# Altium schematic symbol library 2560TK_SchematicLib.SchLib: 34 symbols (part 1 of 2)
Pins are listed as number, name and electrical type; pins without a type are passive.

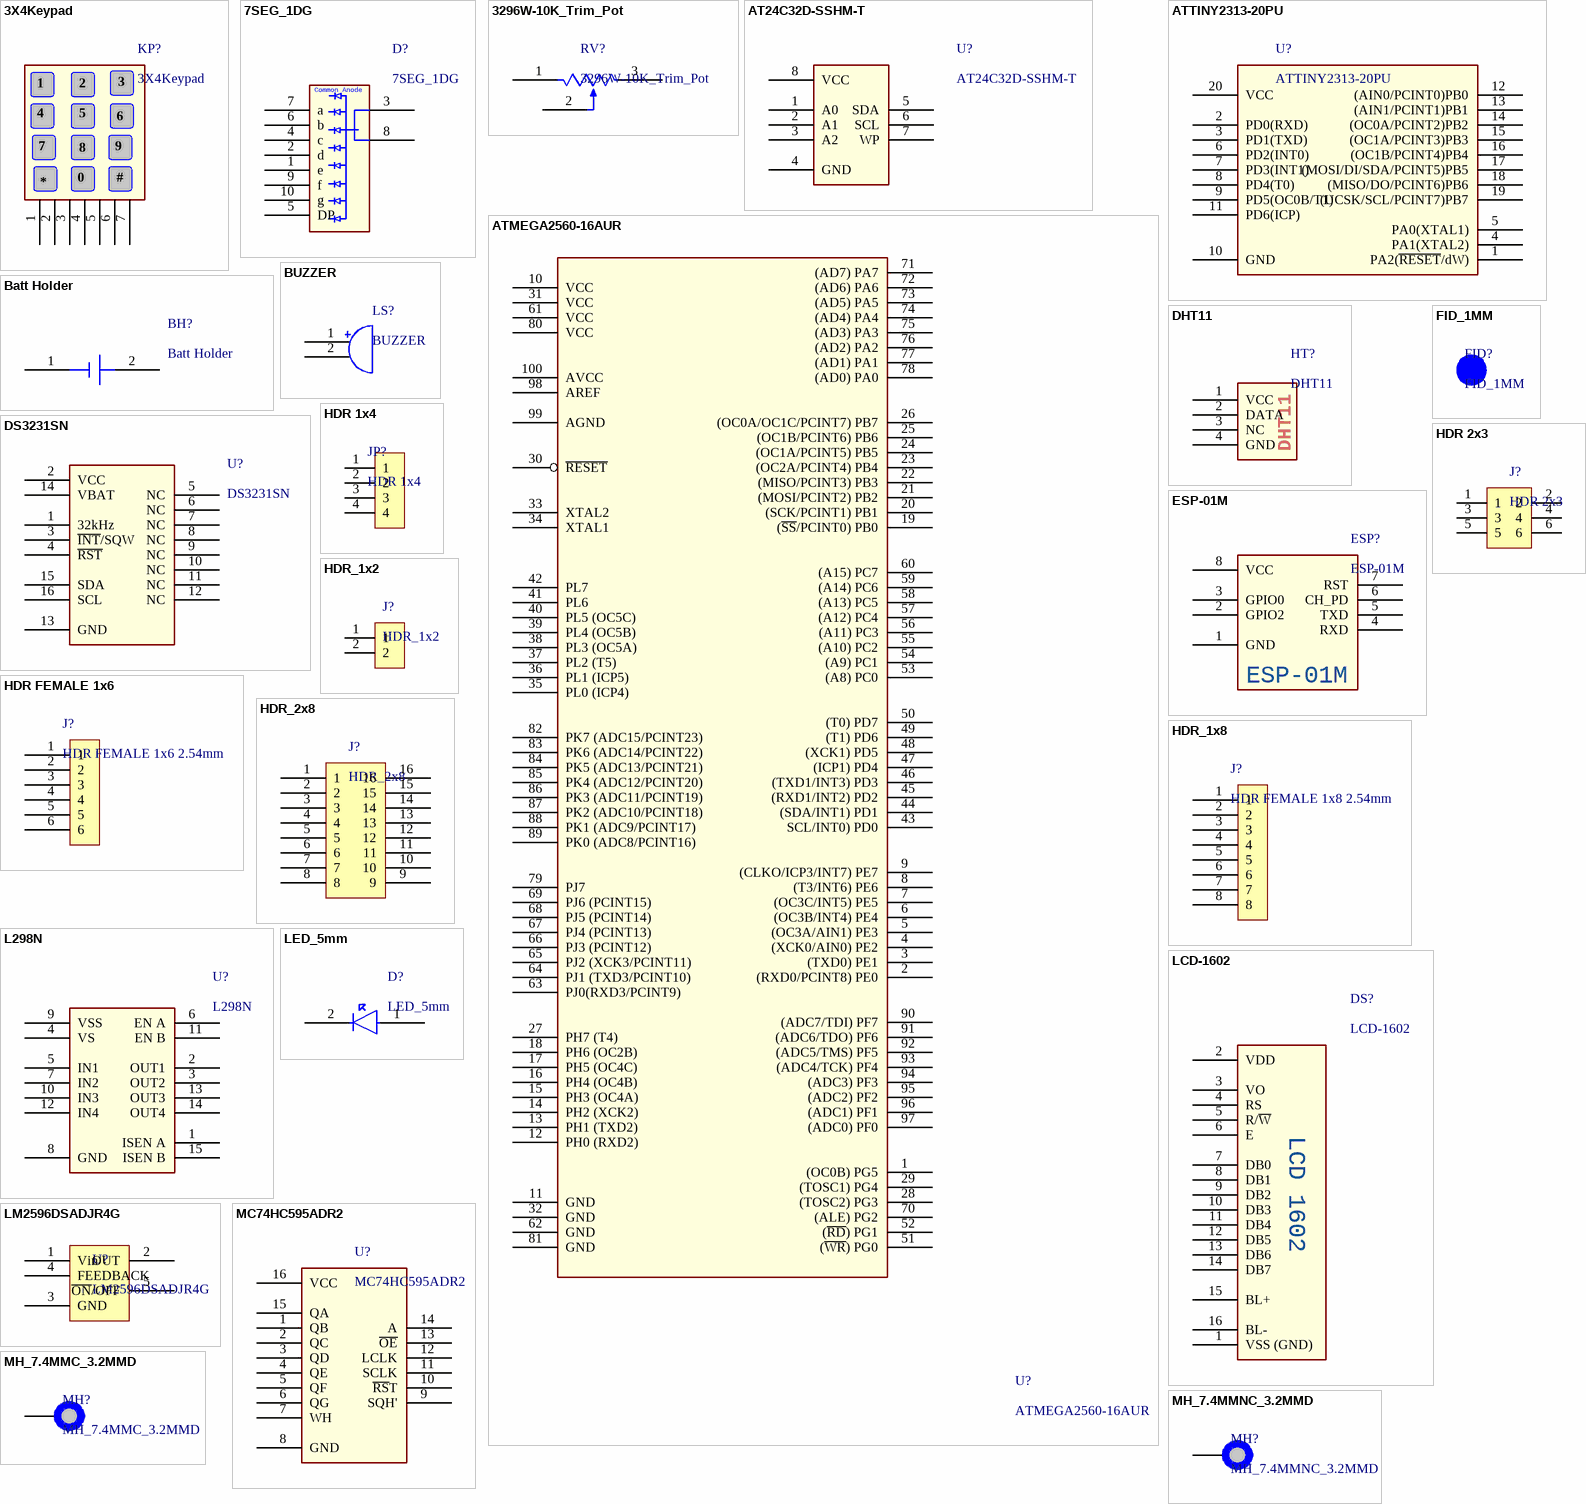
[diagram p0: symbols 3X4Keypad to MH_7.4MMNC_3.2MMD]

## 3X4Keypad
designator KP?
3x4 Matrix Keypad; Manufacturer: Adafruit Industries; Manufacturer Part Number: 3845; Stock 1: 43; Pricing 1: 1=6.50000 (USD); Supplier 1: Digi-Key; Supplier Part Number 1: 1528-2673-ND
footprint COM-08653
pins: 1, 2, 3, 4, 5, 6, 7
text: 8; 9; 0; #

## 7SEG_1DG
designator D?
LED Displays & Accessories Single Red 640nm Common Anode; Manufacturer: Kingbright; Manufacturer Part Number: SA05-11SRWA; Character Height: 12.7mm; Character Width: 7.3mm; Max Power Dissipation: 75mW; Forward Current: 20mA; Forward Voltage: 1.85V; Number of Characters: 1; Luminous Intensity: 34mcd; Number of Segments: 7; Display Type: Segment; RoHS: Yes; Category: LED Displays; Stock 1: 1638; Pricing 1: 1=1.96000, 10=1.24000, 100=0.91770, 500=0.84334, 1000=0.69451, 2000=0.65979, 5000=0.64490, 10000=0.63180 (USD); Mount: Through Hole; Case/Package: DIP; Number of Pins: 10; Color: Red; Min Operating Temperature: -40°C; Max Operating Temperature: 85°C; Package Quantity: 40; Element Configuration: Common Anode; Illumination Color: Red; Operating Supply Voltage: 1.85V; Wavelength: 640nm; Packaging: Bulk; Power Consumption: 75mW; Test Current: 20mA; Length: 0.75inch; Width: 0.5inch; Height: 0.748inch; Lead Free: Lead Free; RoHS Compliant: Yes; ComponentLink1URL: https://datasheet.ciiva.com/16484/sa05-11srwa-16484660.pdf?src-supplier=Future+Electronics; ComponentLink1Description: https://datasheet.ciiva.com/16484/sa05-11srwa-16484660.pdf?src-supplier=Future+Electronics; ComponentLink2URL: https://datasheet.ciiva.com/11771/0900766b802001c1-11771105.pdf?src-supplier=RSComponents; ComponentLink2Description: https://datasheet.ciiva.com/11771/0900766b802001c1-11771105.pdf?src-supplier=RSComponents; ComponentLink3URL: https://datasheet.ciiva.com/2104/sa05-11srwa-2104885.pdf?src-supplier=Digi-Key; ComponentLink3Description: https://datasheet.ciiva.com/2104/sa05-11srwa-2104885.pdf?src-supplier=Digi-Key; ComponentLink4URL: https://datasheet.ciiva.com/4421/sa05-11srwa-42646-4421784.pdf?src-supplier=Mouser; ComponentLink4Description: https://datasheet.ciiva.com/4421/sa05-11srwa-42646-4421784.pdf?src-supplier=Mouser; ComponentLink5URL: https://datasheet.ciiva.com/26291/sa05-11srwa-26291690.pdf?src-supplier=Digi-Key; ComponentLink5Description: https://datasheet.ciiva.com/26291/sa05-11srwa-26291690.pdf?src-supplier=Digi-Key; Supplier 1: Digi-Key; Supplier Part Number 1: 754-1677-5-ND
footprint 7SEG_1DG
pins: 1 e, 2 d, 3, 4 c, 5 DP, 6 b, 7 a, 8, 9 f, 10 g

## 3296W-10K_Trim_Pot
designator RV?
TRIMMER 10K OHM 0.5W PC PIN TOP; Manufacturer: Bourns; Manufacturer Part Number: 3296W-1-103; Tolerance: 10%; Power Rating: 500mW; Resistance: 10kR; Number of Turns: 25; Temperature Coefficient: 100ppm/°C; Voltage Rating (DC): 500V; RoHS: No; Category: Variable Resistors and Potentiometers; Stock 1: 58; Pricing 1: 1=4.38000, 10=3.83600, 25=3.42520, 50=3.21960, 100=3.15100, 250=3.01400, 500=2.46600, 1000=2.12350, 5000=1.91800 (USD); Mount: PCB,Through Hole; Weight: 0.03oz; Color: Blue; Contact Plating: Tin,Lead; Min Operating Temperature: -55°C; Max Operating Temperature: 125°C; Package Quantity: 50; Packaging: Rail/Tube; Termination: Pin; Resistor Type: Cermet; Max Power Dissipation: 500mW; Taper: Linear; Series: Trimpot® 3296 - Sealed; Technology: CERMET; Resistance Tolerance: 10%; Length: 9.53mm; Width: 9.53mm; Height: 0.395inch; Depth: 4.83mm; Thickness: 5.59mm; Radiation Hardening: No; REACH SVHC: No SVHC; Military Standard: Not; RoHS Compliant: No; ComponentLink1URL: https://datasheet.ciiva.com/3266/3296-3266186.pdf?src-supplier=Avnet; ComponentLink1Description: https://datasheet.ciiva.com/3266/3296-3266186.pdf?src-supplier=Avnet; ComponentLink2URL: https://datasheet.ciiva.com/2164/3296-2164077.pdf?src-supplier=Digi-Key; ComponentLink2Description: https://datasheet.ciiva.com/2164/3296-2164077.pdf?src-supplier=Digi-Key; ComponentLink3URL: https://datasheet.ciiva.com/1570/1815117-1570414.pdf?src-supplier=Newark; ComponentLink3Description: https://datasheet.ciiva.com/1570/1815117-1570414.pdf?src-supplier=Newark; Supplier Part Number 1: 3296W-103-ND
footprint 3296W_TrimPot
pins: 1, 2, 3

## AT24C32D-SSHM-T
designator U?
EEPROM Serial-2Wire 32K-bit 4K x 8 1.8V/2.5V/3.3V/5V 8-Pin SOIC T/R; Manufacturer: Microchip / Atmel; Min Supply Voltage: 1.7V; Max Supply Voltage: 5.5V; Access Time: 550ns; Density: 32Kb; Frequency: 1MHz; Nominal Supply Current: 3mA; Interface: I2C,Serial,2-Wire; Operating Supply Voltage: 5V; Organization: 4KX8; Write Protection: YES; Write Cycle Time-Max (tWC): 5ms; Manufacturer Part Number: AT24C32D-SSHM-T; RoHS: Yes; Category: EEPROM; Pricing 1: 1=0.44000 (USD); Mount: Surface Mount; Case/Package: SOIC; Number of Pins: 8; Min Operating Temperature: -40°C; Max Operating Temperature: 85°C; Packaging: Tape and Reel; Package Quantity: 1; Memory Type: EEPROM; Memory Size: 32Kb; Max Frequency: 1MHz; Voltage: 5V; Series: -; Access Time-Max: 550ns; Supply Current: 3mA; Supply Voltage-Nom: 5.5V; Radiation Hardening: No; REACH SVHC: No SVHC; Lead Free: Lead Free; RoHS Compliant: Yes; ComponentLink1URL: https://datasheet.ciiva.com/15123/getdatasheetpartid-320868-15123383.pdf?src-supplier=Verical; ComponentLink1Description: https://datasheet.ciiva.com/15123/getdatasheetpartid-320868-15123383.pdf?src-supplier=Verical; ComponentLink2URL: https://datasheet.ciiva.com/5700/1744693-5700966.pdf?src-supplier=Farnell; ComponentLink2Description: https://datasheet.ciiva.com/5700/1744693-5700966.pdf?src-supplier=Farnell; ComponentLink3URL: https://datasheet.ciiva.com/26869/at24c32d-sshm-t-26869756.pdf?src-supplier=IIIC; ComponentLink3Description: https://datasheet.ciiva.com/26869/at24c32d-sshm-t-26869756.pdf?src-supplier=IIIC; ComponentLink4URL: https://datasheet.ciiva.com/6615/atmel-8866-seeprom-at24c32d-datasheet-6615162.pdf?src-supplier=Digi-Key; ComponentLink4Description: https://datasheet.ciiva.com/6615/atmel-8866-seeprom-at24c32d-datasheet-6615162.pdf?src-supplier=Digi-Key; ComponentLink5URL: https://datasheet.ciiva.com/24168/atmel-8850-seeprom-at24c64d-datasheet-24168478.pdf?src-supplier=Future+Electronics; ComponentLink5Description: https://datasheet.ciiva.com/24168/atmel-8850-seeprom-at24c64d-datasheet-24168478.pdf?src-supplier=Future+Electronics; ComponentLink6URL: https://datasheet.ciiva.com/18617/atmel-8866-seeprom-at24c32d-datasheet-18617722.pdf?src-supplier=Digi-Key; ComponentLink6Description: https://datasheet.ciiva.com/18617/atmel-8866-seeprom-at24c32d-datasheet-18617722.pdf?src-supplier=Digi-Key; ComponentLink7URL: https://datasheet.ciiva.com/6615/atmel-8866-seeprom-at24c32d-datasheet-6615163.pdf?src-supplier=Digi-Key; ComponentLink7Description: https://datasheet.ciiva.com/6615/atmel-8866-seeprom-at24c32d-datasheet-6615163.pdf?src-supplier=Digi-Key; ComponentLink8URL: https://datasheet.ciiva.com/22729/1744693-22729500.pdf?src-supplier=Element14; ComponentLink8Description: https://datasheet.ciiva.com/22729/1744693-22729500.pdf?src-supplier=Element14; ComponentLink9URL: https://datasheet.ciiva.com/22618/1744693-22618573.pdf?src-supplier=Element14; ComponentLink9Description: https://datasheet.ciiva.com/22618/1744693-22618573.pdf?src-supplier=Element14; Supplier Part Number 1: AT24C32D-SSHM-TCT-ND
footprint 8-Pin TTSOP
pins: 1 A0, 2 A1, 3 A2, 4 GND, 5 SDA, 6 SCL, 7 WP, 8 VCC

## ATMEGA2560-16AUR
designator U?
ATMEGA2560 IC MCU 8BIT 256KB FLASH 100TQFP; Manufacturer: Microchip / Atmel; RAM Size: 8KB; Interface: I2C,SPI,UART,USART,EBI/EMI; Number of I/Os: 86; Number of Timers/Counters: 6; Frequency: 16MHz; Operating Supply Voltage: 5V; Max Supply Voltage: 5.5V; Min Supply Voltage: 4.5V; Oscillator Type: Internal; Data Bus Width: 8b; Watchdog Timer: Yes; Peripherals: Brown-out Detect/Reset,POR,PWM,WDT; Core Architecture: AVR; Supplier 1: Digi-Key; Manufacturer Part Number: ATMEGA2560-16AUR; RoHS: Yes; Category: Microcontrollers; Stock 1: 900; Pricing 1: 1=11.99000, 25=10.99000, 100=9.95010 (USD); Mount: Surface Mount; Case/Package: A; Number of Pins: 100; Contact Plating: Tin,Matte; Min Operating Temperature: -40°C; Max Operating Temperature: 85°C; Package Quantity: 1500; Packaging: Tape and Reel; Number of Programmable I/O: 86; Max Frequency: 16MHz; Memory Type: FLASH; Memory Size: 256KB; REACH SVHC: No SVHC; Lead Free: Lead Free; ComponentLink1URL: https://datasheet.ciiva.com/6641/atmel-2549-8-bit-avr-microcontroller-atmega640-1280-1281-2560-2561-summary-6641242.pdf?src-supplier=Digi-Key; ComponentLink1Description: https://datasheet.ciiva.com/6641/atmel-2549-8-bit-avr-microcontroller-atmega640-1280-1281-2560-2561-summary-6641242.pdf?src-supplier=Digi-Key; ComponentLink2URL: https://datasheet.ciiva.com/6641/atmel-2549-8-bit-avr-microcontroller-atmega640-1280-1281-2560-2561-summary-6641243.pdf?src-supplier=Digi-Key; ComponentLink2Description: https://datasheet.ciiva.com/6641/atmel-2549-8-bit-avr-microcontroller-atmega640-1280-1281-2560-2561-summary-6641243.pdf?src-supplier=Digi-Key; ComponentLink3URL: https://datasheet.ciiva.com/6641/atmel-2549-8-bit-avr-microcontroller-atmega640-1280-1281-2560-2561-summary-6641244.pdf?src-supplier=Digi-Key; ComponentLink3Description: https://datasheet.ciiva.com/6641/atmel-2549-8-bit-avr-microcontroller-atmega640-1280-1281-2560-2561-summary-6641244.pdf?src-supplier=Digi-Key; Supplier Part Number 1: ATMEGA2560-16AURCT-ND
footprint 100pinTQFP
pins: 1 (OC0B) PG5, 2 (RXD0/PCINT8) PE0, 3 (TXD0) PE1, 4 (XCK0/AIN0) PE2, 5 (OC3A/AIN1) PE3, 6 (OC3B/INT4) PE4, 7 (OC3C/INT5) PE5, 8 (T3/INT6) PE6, 9 (CLKO/ICP3/INT7) PE7, 10 VCC, 11 GND, 12 PH0 (RXD2), 13 PH1 (TXD2), 14 PH2 (XCK2), 15 PH3 (OC4A), 16 PH4 (OC4B), 17 PH5 (OC4C), 18 PH6 (OC2B), 19 (~{SS}/PCINT0) PB0, 20 (SCK/PCINT1) PB1, 21 (MOSI/PCINT2) PB2, 22 (MISO/PCINT3) PB3, 23 (OC2A/PCINT4) PB4, 24 (OC1A/PCINT5) PB5, 25 (OC1B/PCINT6) PB6, 26 (OC0A/OC1C/PCINT7) PB7, 27 PH7 (T4), 28 (TOSC2) PG3, 29 (TOSC1) PG4, 30 ~{RESET}, 31 VCC, 32 GND, 33 XTAL2, 34 XTAL1, 35 PL0 (ICP4), 36 PL1 (ICP5), 37 PL2 (T5), 38 PL3 (OC5A), 39 PL4 (OC5B), 40 PL5 (OC5C), 41 PL6, 42 PL7, 43 SCL/INT0) PD0, 44 (SDA/INT1) PD1, 45 (RXD1/INT2) PD2, 46 (TXD1/INT3) PD3, 47 (ICP1) PD4, 48 (XCK1) PD5, 49 (T1) PD6, 50 (T0) PD7, 51 (~{WR}) PG0, 52 (~{RD}) PG1, 53 (A8) PC0, 54 (A9) PC1, 55 (A10) PC2, 56 (A11) PC3, 57 (A12) PC4, 58 (A13) PC5, 59 (A14) PC6, 60 (A15) PC7, 61 VCC, 62 GND, 63 PJ0(RXD3/PCINT9), 64 PJ1 (TXD3/PCINT10), 65 PJ2 (XCK3/PCINT11), 66 PJ3 (PCINT12), 67 PJ4 (PCINT13), 68 PJ5 (PCINT14), 69 PJ6 (PCINT15), 70 (ALE) PG2, 71 (AD7) PA7, 72 (AD6) PA6, 73 (AD5) PA5, 74 (AD4) PA4, 75 (AD3) PA3, 76 (AD2) PA2, 77 (AD1) PA1, 78 (AD0) PA0, 79 PJ7, 80 VCC, 81 GND, 82 PK7 (ADC15/PCINT23), 83 PK6 (ADC14/PCINT22), 84 PK5 (ADC13/PCINT21), 85 PK4 (ADC12/PCINT20), 86 PK3 (ADC11/PCINT19), 87 PK2 (ADC10/PCINT18), 88 PK1 (ADC9/PCINT17), 89 PK0 (ADC8/PCINT16), 90 (ADC7/TDI) PF7, 91 (ADC6/TDO) PF6, 92 (ADC5/TMS) PF5, 93 (ADC4/TCK) PF4, 94 (ADC3) PF3, 95 (ADC2) PF2, 96 (ADC1) PF1, 97 (ADC0) PF0, 98 AREF, 99 AGND, 100 AVCC

## ATTINY2313-20PU
designator U?
ATMEL         ATTINY2313-20PU            8 Bit Microcontroller, Low Power High Performance, ATtiny, 20 MHz, 2 KB, 128 Byte, 20 Pins, DIP; Manufacturer: Microchip / Atmel; Interface: SPI,UART,USART; Min Supply Voltage: 2.7V; Max Supply Voltage: 5.5V; Frequency: 20MHz; Oscillator Type: Internal; Memory Type: FLASH,EEPROM; Memory Size: 2KB; Peripherals: Brown-out Detect/Reset,POR,PWM,WDT; Number of Timers/Counters: 2; RAM Size: 128B; Number of I/Os: 18; Number of PWM Channels: 4; Number of UART Channels: 1; Data Bus Width: 8b; Number of Bits: 8; Watchdog Timer: Yes; Access Time: 20us; Core Architecture: AVR; Manufacturer Part Number: ATTINY2313-20PU; RoHS: Yes; Category: Microcontrollers; Stock 1: 1963; Pricing 1: 1=1.93000, 25=1.77120, 100=1.59500 (USD); Mount: Through Hole; Case/Package: DIP; Number of Pins: 20; Contact Plating: Tin,Matte; Min Operating Temperature: -40°C; Max Operating Temperature: 85°C; Packaging: Rail/Tube; Package Quantity: 18; Density: 2KB; Number of Programmable I/O: 18; Max Frequency: 20MHz; Number of SPI Channels: 2; Number of I2C Channels: 1; Address Bus Width: 8b; Series: AVR® ATtiny; Length: 25.98mm; Width: 7.112mm; Height: 4.953mm; Radiation Hardening: No; RoHS Compliant: Yes; REACH SVHC: No SVHC; Lead Free: Lead Free; ComponentLink1URL: https://datasheet.ciiva.com/1167/doc2543-1167040.pdf?src-supplier=Newark; ComponentLink1Description: https://datasheet.ciiva.com/1167/doc2543-1167040.pdf?src-supplier=Newark; ComponentLink2URL: https://datasheet.ciiva.com/19481/1537061-19481586.pdf?src-supplier=Jameco; ComponentLink2Description: https://datasheet.ciiva.com/19481/1537061-19481586.pdf?src-supplier=Jameco; ComponentLink3URL: https://datasheet.ciiva.com/15122/getdatasheetpartid-143079-15122628.pdf?src-supplier=Verical; ComponentLink3Description: https://datasheet.ciiva.com/15122/getdatasheetpartid-143079-15122628.pdf?src-supplier=Verical; ComponentLink4URL: https://datasheet.ciiva.com/20168/73-4316-20168308.pdf?src-supplier=Rapid+Electronics; ComponentLink4Description: https://datasheet.ciiva.com/20168/73-4316-20168308.pdf?src-supplier=Rapid+Electronics; ComponentLink5URL: https://datasheet.ciiva.com/14132/gn645062-14132485.pdf?src-supplier=Distrelec; ComponentLink5Description: https://datasheet.ciiva.com/14132/gn645062-14132485.pdf?src-supplier=Distrelec; ComponentLink6URL: https://datasheet.ciiva.com/1158/1131078-1158423.pdf?src-supplier=Element14; ComponentLink6Description: https://datasheet.ciiva.com/1158/1131078-1158423.pdf?src-supplier=Element14; ComponentLink7URL: https://datasheet.ciiva.com/26207/doc2543-26207001.pdf?src-supplier=Avnet+Europe; ComponentLink7Description: https://datasheet.ciiva.com/26207/doc2543-26207001.pdf?src-supplier=Avnet+Europe; ComponentLink8URL: https://datasheet.ciiva.com/6639/doc2543-6639931.pdf?src-supplier=Digi-Key; ComponentLink8Description: https://datasheet.ciiva.com/6639/doc2543-6639931.pdf?src-supplier=Digi-Key; ComponentLink9URL: https://datasheet.ciiva.com/3203/doc2543-3203135.pdf?src-supplier=Avnet; ComponentLink9Description: https://datasheet.ciiva.com/3203/doc2543-3203135.pdf?src-supplier=Avnet; Supplier 1: Digi-Key; Supplier Part Number 1: ATTINY2313-20PU-ND
footprint DIP20
pins: 1 PA2(~{RESET}/dW), 2 PD0(RXD), 3 PD1(TXD), 4 PA1(XTAL2), 5 PA0(XTAL1), 6 PD2(INT0), 7 PD3(INT1), 8 PD4(T0), 9 PD5(OC0B/T1), 10 GND, 11 PD6(ICP), 12 (AIN0/PCINT0)PB0, 13 (AIN1/PCINT1)PB1, 14 (OC0A/PCINT2)PB2, 15 (OC1A/PCINT3)PB3, 16 (OC1B/PCINT4)PB4, 17 (MOSI/DI/SDA/PCINT5)PB5, 18 (MISO/DO/PCINT6)PB6, 19 (UCSK/SCL/PCINT7)PB7, 20 VCC

## Batt Holder
designator BH?
BATTERY HOLDER COIN 20MM PC PIN; Manufacturer: Memory Protection Devices; Manufacturer Part Number: BS-7; Number of Cells: 1; Supplier 1: Digi-Key; RoHS: No; Category: Batteries and Accessories; Stock 1: 55851; Pricing 1: 1=0.78000, 10=0.66000, 50=0.57880, 100=0.54570, 250=0.50236, 500=0.47176, 1000=0.44115, 2500=0.40290, 5000=0.37230 (USD); Mount: Through Hole,PCB; Min Operating Temperature: -55°C; Max Operating Temperature: 105°C; Package Quantity: 100; Termination: PC Pin; Diameter: 20mm; Lead Free: Lead Free; ComponentLink1URL: https://datasheet.ciiva.com/3/bs-7-datasheet-3824.pdf?src-supplier=Digi-Key; ComponentLink1Description: https://datasheet.ciiva.com/3/bs-7-datasheet-3824.pdf?src-supplier=Digi-Key; Supplier Part Number 1: BS-7-ND
footprint Batt Holder
pins: 1, 2

## BUZZER
designator LS?
AUDIO MAGNETIC XDCR 3-7V TH; Manufacturer: Projects Unlimited; Manufacturer Part Number: AT-1224-TWT-5V-2-R; Voltage Rating: 5V; Frequency: 2.4kHz; Operating Supply Current: 40mA; RoHS: Yes; Category: Audio Products; Stock 1: 83564; Pricing 1: 1=0.61000, 5=0.54600, 10=0.52000, 25=0.48640, 50=0.46120, 100=0.43680, 500=0.38252, 1000=0.36032, 5000=0.31168 (USD); Mount: Through Hole; Contact Plating: Tin; Min Operating Temperature: -30°C; Max Operating Temperature: 70°C; Packaging: Tray; Termination: PC Pins; Sensing Method: Magnetic; Max Supply Current: 40mA; Diameter: 12mm; Height: 9mm; ComponentLink1URL: http://www.mouser.com/ds/2/334/AT-1224-TWT-5V-2-R-532234.pdf?src-supplier=Mouser; ComponentLink1Description: http://www.mouser.com/ds/2/334/AT-1224-TWT-5V-2-R-532234.pdf?src-supplier=Mouser; ComponentLink2URL: http://www.puiaudio.com/pdf/AT-1224-TWT-5V-2-R.pdf?src-supplier=Digi-Key; ComponentLink2Description: http://www.puiaudio.com/pdf/AT-1224-TWT-5V-2-R.pdf?src-supplier=Digi-Key; ComponentLink3URL: http://www.puiaudio.com/pdf/AT-1224-TWT-5V-2-R.pdf?src-supplier=Avnet; ComponentLink3Description: http://www.puiaudio.com/pdf/AT-1224-TWT-5V-2-R.pdf?src-supplier=Avnet; Supplier 1: Digi-Key; Supplier Part Number 1: 668-1470-ND
footprint BUZZER
pins: 1, 2

## DHT11
designator HT?
SENSOR HUMID/TEMP 5V DTL 5% MOD; Manufacturer: Adafruit Industries; Manufacturer Part Number: 386; Response Time: 1s; Sensor Type: Temperature; Output Type: Digital; RoHS: Yes; Category: Optoelectronics; Stock 1: 753; Pricing 1: 1=5.00000 (USD); Mount: Chassis Mount; Min Operating Temperature: 0°C; Max Operating Temperature: 50°C; Accuracy: 5%; ComponentLink1URL: https://media.digikey.com/pdf/Data%20Sheets/Adafruit%20PDFs/DHT11_ProdManual.pdf?src-supplier=Digi-Key; ComponentLink1Description: https://media.digikey.com/pdf/Data%20Sheets/Adafruit%20PDFs/DHT11_ProdManual.pdf?src-supplier=Digi-Key; Supplier 1: Digi-Key; Supplier Part Number 1: 1528-1228-ND
footprint DHT11
pins: 1 VCC, 2 DATA, 3 NC, 4 GND

## DS3231SN
designator U?
MAXIM INTEGRATED PRODUCTS - DS3231SN#T&R - IC, RTC, Datum-/Zeitformat (Tag/Datum/Monat/Jahr, hh:mm:ss), I2C, 2.3V-5.5V Versorgung, SOIC-16; Max Supply Voltage: 5.5V; Min Supply Voltage: 2.3V; Interface: I2C,Serial,2-Wire; Logic Function: Clock; Date Format: YY-MM-DD-dd; Operating Supply Voltage: 3.3V; Supplier 1: Digi-Key; Manufacturer: Maxim; Manufacturer Part Number: DS3231SN#T&R; RoHS: Yes; Category: Real Time Clocks; Stock 1: 4168; Pricing 1: 1=8.82000, 10=7.96700, 25=7.59600, 100=6.59560, 250=6.29920, 500=5.74336 (USD); Mount: Surface Mount; Case/Package: SOIC; Number of Pins: 16; Contact Plating: Tin,Matte; Min Operating Temperature: -40°C; Max Operating Temperature: 85°C; Packaging: Tape and Reel; Package Quantity: 1000; Time Format: HH:MM:SS; Series: -; Radiation Hardening: No; Lead Free: Lead Free; RoHS Compliant: Yes; ComponentLink1URL: https://datasheet.ciiva.com/17307/ds3231-17307128.pdf?src-supplier=Avnet+Europe; ComponentLink1Description: https://datasheet.ciiva.com/17307/ds3231-17307128.pdf?src-supplier=Avnet+Europe; ComponentLink2URL: https://datasheet.ciiva.com/12291/ds3231-102175-12291260.pdf?src-supplier=Mouser; ComponentLink2Description: https://datasheet.ciiva.com/12291/ds3231-102175-12291260.pdf?src-supplier=Mouser; ComponentLink3URL: https://datasheet.ciiva.com/14244/ds3231-14244637.pdf?src-supplier=Avnet; ComponentLink3Description: https://datasheet.ciiva.com/14244/ds3231-14244637.pdf?src-supplier=Avnet; ComponentLink4URL: https://datasheet.ciiva.com/14244/ds3231-14244733.pdf?src-supplier=Avnet; ComponentLink4Description: https://datasheet.ciiva.com/14244/ds3231-14244733.pdf?src-supplier=Avnet; Supplier Part Number 1: DS3231SN#T&RCT-ND
footprint 16 SO
pins: 1 32kHz, 2 VCC, 3 ~{INT}/SQW, 4 ~{RST}, 5 NC, 6 NC, 7 NC, 8 NC, 9 NC, 10 NC, 11 NC, 12 NC, 13 GND, 14 VBAT, 15 SDA, 16 SCL

## ESP-01M
designator ESP?
TXRX ESP8266 MOD WIFI TRACE ANT; Manufacturer: Seeed Studio; Manufacturer Part Number: 317060016; RoHS: No; Category: Embedded Processors and Controllers; Stock 1: 190; Pricing 1: 1=7.09000 (USD); Case/Package: Module; Weight: 0.0625lb; Length: 3.25inch; Width: 2.25inch; Height: 0.25inch; ComponentLink1URL: https://media.digikey.com/pdf/Data%20Sheets/Seeed%20Technology/317060016_Web.pdf?src-supplier=Digi-Key; ComponentLink1Description: https://media.digikey.com/pdf/Data%20Sheets/Seeed%20Technology/317060016_Web.pdf?src-supplier=Digi-Key; Supplier 1: Digi-Key; Supplier Part Number 1: 1597-1145-ND
footprint ESP-01
pins: 1 GND, 2 GPIO2, 3 GPIO0, 4 RXD, 5 TXD, 6 CH_PD, 7 RST, 8 VCC

## FID_1MM
designator FID?
Fiducial 40mil Diameter, 120mil mask
footprint FID_40x120

## HDR 1x4
designator JP?
CONN HEADER VERT 4POS 2.54MM; Manufacturer: Amphenol FCI; Manufacturer Part Number: 68001-204HLF; Current Rating: 3A; Voltage Rating: 1.5kV; Connector Type: Male Pin; Gender: Male; Number of Positions: 4; Insulation Resistance: 5GR; Contact Post Length: 3.05mm; Supplier 1: Digi-Key; RoHS: Yes; Category: Headers and Wire Housings; Stock 1: 2003; Pricing 1: 1=0.40000, 10=0.37500, 100=0.26260, 500=0.22512, 1000=0.18760, 5000=0.16080, 10000=0.15008 (USD); Mount: Through Hole; Color: Black; Contact Plating: Gold,GXT; Contact Material: Bronze; Housing Material: Thermoplastic; Min Operating Temperature: -65°C; Max Operating Temperature: 125°C; Package Quantity: 100; Number of Rows: 1; Packaging: Bulk; Contact Gender: Male; Termination: Solder; Number of Contacts: 4; Orientation: Straight; Pitch: 2.54mm; Contact Mating Length: 0.23inch; Radiation Hardening: No; Flammability Rating: UL94 V-0; ComponentLink1URL: https://datasheet.ciiva.com/5164/68000-274255-5164127.pdf?src-supplier=Mouser; ComponentLink1Description: https://datasheet.ciiva.com/5164/68000-274255-5164127.pdf?src-supplier=Mouser; ComponentLink2URL: https://datasheet.ciiva.com/726/68000-726529.pdf?src-supplier=Digi-Key; ComponentLink2Description: https://datasheet.ciiva.com/726/68000-726529.pdf?src-supplier=Digi-Key; Supplier Part Number 1: 609-3402-ND
footprint HDR_1x4_2.54mm
pins: 1, 2, 3, 4

## HDR 2x3
designator J?
CONN HEADER 6POS .100 STR 30AU; Manufacturer: Amphenol FCI; Manufacturer Part Number: 67997-106HLF; Number of Contacts: 6; Current Rating: 3A; Voltage Rating: 1.5kV; Insulation Resistance: 5GR; Gender: Male; Connector Type: Male Pin; Pitch: 2.54mm; Row Spacing: 0.1inch; Contact Post Length: 3.05mm; Supplier 1: Digi-Key; RoHS: Yes; Category: Headers and Wire Housings; Stock 1: 1173; Pricing 1: 1=1.87000, 10=1.69500, 100=1.45300, 500=1.21082, 1000=1.03785, 5000=0.92023, 10000=0.89947 (USD); Mount: Through Hole; Contact Plating: Gold,GXT; Contact Material: Bronze; Color: Black; Housing Color: Black; Housing Material: Thermoplastic; Min Operating Temperature: -65°C; Max Operating Temperature: 125°C; Number of Rows: 2; Termination: Through Hole; Packaging: Bulk; Package Quantity: 100; Contact Gender: Male; Number of Positions: 6; Max Voltage Rating (AC): 1.5kV; Orientation: Straight; Series: 67997; Contact Type: Male Pin; Length: 7.62mm; Contact Mating Length: 0.23inch; Depth: 4.83mm; Radiation Hardening: No; REACH SVHC: No SVHC; Lead Free: Lead Free; Flammability Rating: UL94 V-0; RoHS Compliant: Yes; ComponentLink1URL: https://datasheet.ciiva.com/5153/67996-222463-5153820.pdf?src-supplier=Mouser; ComponentLink1Description: https://datasheet.ciiva.com/5153/67996-222463-5153820.pdf?src-supplier=Mouser; ComponentLink2URL: https://datasheet.ciiva.com/16726/67996-16726286.pdf?src-supplier=Avnet+Europe; ComponentLink2Description: https://datasheet.ciiva.com/16726/67996-16726286.pdf?src-supplier=Avnet+Europe; ComponentLink3URL: https://datasheet.ciiva.com/722/67996-722044.pdf?src-supplier=Digi-Key; ComponentLink3Description: https://datasheet.ciiva.com/722/67996-722044.pdf?src-supplier=Digi-Key; ComponentLink4URL: https://datasheet.ciiva.com/10149/67996-10149221.pdf?src-supplier=Avnet; ComponentLink4Description: https://datasheet.ciiva.com/10149/67996-10149221.pdf?src-supplier=Avnet; ComponentLink5URL: https://datasheet.ciiva.com/46393/1876884-46393067.pdf?src-supplier=Element14; ComponentLink5Description: https://datasheet.ciiva.com/46393/1876884-46393067.pdf?src-supplier=Element14; Supplier Part Number 1: 609-3393-ND
footprint HDR_2x3
pins: 1, 2, 3, 4, 5, 6

## HDR FEMALE 1x6
designator J?, comment HDR FEMALE 1x6 2.54mm
06-WAY SIL VERT SOCKET L/FREE; Manufacturer: Harwin; Manufacturer Part Number: M20-7820646; Number of Contacts: 6; Max Current Rating: 3A; Contact Resistance: 20mR; Connector Type: Receptacle; Supplier 1: Digi-Key; RoHS: Yes; Category: Headers and Wire Housings; Stock 1: 1568; Pricing 1: 1=1.01000, 10=0.89000, 100=0.76780, 500=0.62820, 1000=0.55840, 5000=0.48860, 10000=0.46417 (USD); Mount: Through Hole; Case/Package: SIL; Color: Black; Contact Plating: Tin; Contact Material: Bronze; Housing Color: Black; Housing Material: Nylon; Min Operating Temperature: -40°C; Max Operating Temperature: 105°C; Number of Rows: 1; Termination: Solder; Packaging: Rail/Tube; Contact Gender: Female; Package Quantity: 38; Number of Positions: 6; Orientation: Straight; Gender: Female; Series: M20; Contact Type: Female Socket; Length: 15.64mm; Pitch: 2.54mm; Depth: 2.5mm; Radiation Hardening: No; RoHS Compliant: Yes; ComponentLink1URL: http://components.arrow.com/part/dataview/0323_00725884?src-supplier=Arrow+Europe; ComponentLink1Description: http://components.arrow.com/part/dataview/0323_00725884?src-supplier=Arrow+Europe; ComponentLink2URL: http://www.harwin.com/include/downloads/pdfs/2010PAGE120.PDF?src-supplier=Avnet; ComponentLink2Description: http://www.harwin.com/include/downloads/pdfs/2010PAGE120.PDF?src-supplier=Avnet; ComponentLink3URL: https://cdn.harwin.com/pdfs/M20-782.pdf?src-supplier=Digi-Key; ComponentLink3Description: https://cdn.harwin.com/pdfs/M20-782.pdf?src-supplier=Digi-Key; ComponentLink4URL: https://cdn.harwin.com/pdfs/Harwin_PC_Connectors_M20.pdf?src-supplier=Avnet+Europe; ComponentLink4Description: https://cdn.harwin.com/pdfs/Harwin_PC_Connectors_M20.pdf?src-supplier=Avnet+Europe; ComponentLink5URL: https://cdn.harwin.com/pdfs/Harwin_PC_Connectors_M20.pdf?src-supplier=RSComponents; ComponentLink5Description: https://cdn.harwin.com/pdfs/Harwin_PC_Connectors_M20.pdf?src-supplier=RSComponents; ComponentLink6URL: https://cdn.harwin.com/pdfs/Harwin_PC_Connectors_M20.pdf?src-supplier=Mouser; ComponentLink6Description: https://cdn.harwin.com/pdfs/Harwin_PC_Connectors_M20.pdf?src-supplier=Mouser; ComponentLink7URL: https://cdn.harwin.com/pdfs/Harwin_PC_Connectors_M20.pdf?src-supplier=TTI; ComponentLink7Description: https://cdn.harwin.com/pdfs/Harwin_PC_Connectors_M20.pdf?src-supplier=TTI; Supplier Part Number 1: 952-1809-ND
footprint HDR_Female_1x6_2.54mm
pins: 1, 2, 3, 4, 5, 6

## HDR_1x2
designator J?
Pin Header 2.54MM Pitch Str, 1X2PIN, Full G/f, NY6T, 6.1MM*2.5MM*3.0MM / Bag; Manufacturer: Amphenol; Manufacturer Part Number: G800W306018EU; Supplier 1: Mouser; Stock 1: 1088; Pricing 1: 1=0.10000, 10=0.02700, 50=0.02700, 100=0.02600, 1000=0.02200, 10000=0.01900 (USD); RoHS Compliant: Yes; Supplier Part Number 1: 523-G800W306018EU
footprint HDR_1x2
pins: 1, 2

## HDR_1x8
designator J?, comment HDR FEMALE 1x8 2.54mm
2.54mm (0.1") Pitch SIL Vertical PC Tail Socket Assembly, selective gold + tin, 8 contacts; Manufacturer: Harwin; Manufacturer Part Number: M20-7820842; Number of Contacts: 8; Max Current Rating: 3A; Contact Resistance: 20mR; Connector Type: Receptacle; Supplier 1: Digi-Key; RoHS: Yes; Category: Headers and Wire Housings; Stock 1: 1109; Pricing 1: 1=1.17000, 10=1.03000, 100=0.88880, 500=0.72720, 1000=0.64640, 5000=0.56560, 10000=0.53732 (USD); Mount: Through Hole; Case/Package: SIL; Contact Plating: Tin,Gold; Color: Black; Contact Material: Bronze; Weight: 0.025397oz; Housing Color: Black; Housing Material: Polyamide; Min Operating Temperature: -40°C; Max Operating Temperature: 105°C; Number of Rows: 1; Termination: Solder; Contact Gender: Female; Package Quantity: 29; Packaging: Rail/Tube; Number of Positions: 8; Orientation: Straight; Gender: Female; Series: M20; Contact Type: Female Socket; Length: 20.72mm; Pitch: 2.54mm; Depth: 2.5mm; Radiation Hardening: No; RoHS Compliant: Yes; ComponentLink1URL: https://datasheet.ciiva.com/16732/m20-782-16732663.pdf?src-supplier=Avnet+Europe; ComponentLink1Description: https://datasheet.ciiva.com/16732/m20-782-16732663.pdf?src-supplier=Avnet+Europe; ComponentLink2URL: https://datasheet.ciiva.com/9480/m20-782-9480074.pdf?src-supplier=Avnet; ComponentLink2Description: https://datasheet.ciiva.com/9480/m20-782-9480074.pdf?src-supplier=Avnet; Supplier Part Number 1: 952-1823-ND
footprint HDR_1x8
pins: 1, 2, 3, 4, 5, 6, 7, 8

## HDR_2x8
designator J?
CONN HDR FEMALE 16POS 0.1 GOLD PCB; Manufacturer: Sullins; Manufacturer Part Number: PPPC082LFBN-RC; Number of Positions: 16; Connector Type: Header; Pitch: 0.1inch; Supplier 1: Digi-Key; RoHS: Yes; Category: Connectors; Stock 1: 22838; Pricing 1: 1=1.03000, 10=0.90400, 100=0.78010, 500=0.63828, 1000=0.56736, 5000=0.51220 (USD); Mount: Through Hole; Color: Black; Contact Plating: Gold; Contact Material: Bronze; Housing Material: Plastic; Package Quantity: 1000; Number of Rows: 2; Packaging: Bulk; Termination: Solder; Contact Type: Female Socket; Length: 20.8mm; Width: 5mm; Height: 8.5mm; Row Spacing: 0.1inch; Lead Free: Lead Free; RoHS Compliant: Yes; ComponentLink1URL: https://media.digikey.com/pdf/Data%20Sheets/Sullins%20PDFs/Female_Headers.100_DS.pdf?src-supplier=Digi-Key; ComponentLink1Description: https://media.digikey.com/pdf/Data%20Sheets/Sullins%20PDFs/Female_Headers.100_DS.pdf?src-supplier=Digi-Key; ComponentLink2URL: http://www.sullinscorp.com/catalogs/101_Page80-81_HEADER_.100_2.54mm_FEMALE.pdf?src-supplier=Future+Electronics; ComponentLink2Description: http://www.sullinscorp.com/catalogs/101_Page80-81_HEADER_.100_2.54mm_FEMALE.pdf?src-supplier=Future+Electronics; Supplier Part Number 1: S7111-ND
footprint HDR_2x8
pins: 1, 2, 3, 4, 5, 6, 7, 8, 9, 10, 11, 12, 13, 14, 15, 16

## L298N
designator U?
Motor / Motion / Ignition Controllers & Drivers Dual Full Bridge; Manufacturer: STMicroelectronics; Number of Outputs: 4; Output Current: 2A; Output Voltage: 46V; Operating Supply Voltage: 42V; Min Supply Voltage: 4.8V; Max Output Current: 3A; Operating Supply Current: 13mA; Quiescent Current: 500mA; Number of Drivers: 2; Motor Type: Brushed; Output Impedance: 24mR; Manufacturer Part Number: L298N; RoHS: Yes; Category: Motor Drivers; Stock 1: 13112; Pricing 1: 1=5.15000, 10=4.62700, 25=4.37400, 100=3.59650, 250=3.22712, 500=3.11046, 1000=2.58557, 2500=2.48837, 5000=2.47590 (USD); Mount: Through Hole; Number of Pins: 15; Min Operating Temperature: -25°C; Max Operating Temperature: 130°C; Packaging: Rail/Tube; Max Supply Voltage: 46V; Package Quantity: 25; Output Current per Channel: 2A; Max Collector Current: 3A; Collector Emitter Voltage (VCEO): 46V; Series: -; Length: 19.6mm; Width: 5mm; Height: 10.7mm; Radiation Hardening: No; REACH SVHC: No SVHC; Lead Free: Lead Free; RoHS Compliant: Yes; ComponentLink1URL: https://datasheet.ciiva.com/15109/getdatasheetpartid-50682-15109332.pdf?src-supplier=Verical; ComponentLink1Description: https://datasheet.ciiva.com/15109/getdatasheetpartid-50682-15109332.pdf?src-supplier=Verical; ComponentLink2URL: https://datasheet.ciiva.com/19456/245403-19456698.pdf?src-supplier=Jameco; ComponentLink2Description: https://datasheet.ciiva.com/19456/245403-19456698.pdf?src-supplier=Jameco; ComponentLink3URL: https://datasheet.ciiva.com/25626/0900766b80060c26-25626619.pdf?src-supplier=RSComponents; ComponentLink3Description: https://datasheet.ciiva.com/25626/0900766b80060c26-25626619.pdf?src-supplier=RSComponents; ComponentLink4URL: https://datasheet.ciiva.com/14150/ofl298n-647108-dat-en-14150301.pdf?src-supplier=Distrelec; ComponentLink4Description: https://datasheet.ciiva.com/14150/ofl298n-647108-dat-en-14150301.pdf?src-supplier=Distrelec; ComponentLink5URL: https://datasheet.ciiva.com/29306/156128-da-01-en-dual-bridge-driv-l298n-29306997.pdf?src-supplier=Conrad; ComponentLink5Description: https://datasheet.ciiva.com/29306/156128-da-01-en-dual-bridge-driv-l298n-29306997.pdf?src-supplier=Conrad; ComponentLink6URL: https://datasheet.ciiva.com/26880/l298n-26880153.pdf?src-supplier=IIIC; ComponentLink6Description: https://datasheet.ciiva.com/26880/l298n-26880153.pdf?src-supplier=IIIC; ComponentLink7URL: https://datasheet.ciiva.com/1608/1693054-1608165.pdf?src-supplier=Newark; ComponentLink7Description: https://datasheet.ciiva.com/1608/1693054-1608165.pdf?src-supplier=Newark; ComponentLink8URL: https://datasheet.ciiva.com/1500/1693054-1500714.pdf?src-supplier=Element14; ComponentLink8Description: https://datasheet.ciiva.com/1500/1693054-1500714.pdf?src-supplier=Element14; ComponentLink9URL: https://datasheet.ciiva.com/1501/1693054-1501547.pdf?src-supplier=Element14; ComponentLink9Description: https://datasheet.ciiva.com/1501/1693054-1501547.pdf?src-supplier=Element14; ComponentLink10URL: https://datasheet.ciiva.com/1955/cd00000240-1955436.pdf?src-supplier=Digi-Key; ComponentLink10Description: https://datasheet.ciiva.com/1955/cd00000240-1955436.pdf?src-supplier=Digi-Key; ComponentLink11URL: https://datasheet.ciiva.com/4895/cd00000240-4895919.pdf?src-supplier=Mouser; ComponentLink11Description: https://datasheet.ciiva.com/4895/cd00000240-4895919.pdf?src-supplier=Mouser; Supplier 1: Digi-Key; Supplier Part Number 1: 497-1395-5-ND
footprint Multiwatt15
pins: 1 ISEN A, 2 OUT1, 3 OUT2, 4 VS, 5 IN1, 6 EN A, 7 IN2, 8 GND, 9 VSS, 10 IN3, 11 EN B, 12 IN4, 13 OUT3, 14 OUT4, 15 ISEN B

## LCD-1602
designator DS?
LUMEX         LCM-S01602DTR/C             Alphanumeric LCD, 16 x 2, Black on Grey, 5V, Parallel, English, Japanese, Reflective; Number of Characters: 32; Character Height: 5.56mm; Character Width: 2.96mm; Background Color: Green; Number Of Characters Per Row: 16; Current Rating: 3mA; Viewing Area (width): 66mm; Viewing Area (height): 16mm; Supplier 1: Digi-Key; Manufacturer: Lumex; Manufacturer Part Number: LCM-S01602DTR/C; RoHS: Yes; Category: LCD, OLED, Graphic Displays; Stock 1: 70; Pricing 1: 1=11.49000, 10=8.33200, 100=6.88450, 500=6.02938, 1000=5.70050, 2000=5.56895, 5000=5.48125, 10000=5.37163 (USD); Case/Package: Module; Min Operating Temperature: 0°C; Max Operating Temperature: 50°C; Interface: Parallel; Operating Supply Voltage: 5V; Packaging: Bulk; Package Quantity: 45; Voltage Rating: 5V; Length: 85mm; Width: 85mm; Height: 30mm; REACH SVHC: No SVHC; Lead Free: Lead Free; ComponentLink1URL: https://datasheet.ciiva.com/1314/1701289-1314455.pdf?src-supplier=Newark; ComponentLink1Description: https://datasheet.ciiva.com/1314/1701289-1314455.pdf?src-supplier=Newark; ComponentLink2URL: https://datasheet.ciiva.com/1227/1701289-1227260.pdf?src-supplier=Element14; ComponentLink2Description: https://datasheet.ciiva.com/1227/1701289-1227260.pdf?src-supplier=Element14; Supplier Part Number 1: 67-1780-ND
footprint LCD1602
pins: 1 VSS (GND), 2 VDD, 3 VO, 4 RS, 5 R/~{W}, 6 E, 7 DB0, 8 DB1, 9 DB2, 10 DB3, 11 DB4, 12 DB5, 13 DB6, 14 DB7, 15 BL+, 16 BL-
text: LCD 1602

## LED_5mm
designator D?
5MM LED; Manufacturer: Kingbright; Manufacturer Part Number: WP7113ND; Stock 1: 50; Pricing 1: 1=0.67000, 10=0.41100, 100=0.23650, 1000=0.18508, 2000=0.16966, 5000=0.15423, 10000=0.14395, 25000=0.13881 (USD); Supplier 1: Digi-Key; Supplier Part Number 1: 754-1896-ND; ComponentLink1Description: Datasheet; ComponentLink1URL: https://www.kingbrightusa.com/images/catalog/SPEC/WP7113ND.pdf
footprint LED_5mm
pins: 1, 2

## LM2596DSADJR4G
designator U?
Sw. Regulator 3A Adj. Step-Down D2PAK-5; Manufacturer: ON Semiconductor; Number of Outputs: 1; Max Input Voltage: 40V; Min Input Voltage: 4.5V; Output Voltage: 37V; Efficiency: 73%; Switching Frequency: 150kHz; Synchronous Rectifier: No; Min Output Voltage: 1.23V; Topology: Buck-Boost; Output Type: Adjustable; Supplier 1: Digi-Key; Manufacturer Part Number: LM2596DSADJR4G; RoHS: Yes; Category: Voltage Regulators - Switching; Stock 1: 3215; Pricing 1: 1=2.24000, 10=2.01100, 25=1.89760, 100=1.59390 (USD); Mount: Surface Mount; Case/Package: D2PAK; Number of Pins: 5; Min Operating Temperature: -40°C; Max Operating Temperature: 125°C; Max Output Current: 3A; Packaging: Tape and Reel; Output Current: 3A; Package Quantity: 800; Max Output Voltage: 37V; Operating Supply Voltage: 40V; Series: LM2596; Switching Frequency-Max: 150kHz; Length: 10.24mm; Width: 4.572mm; Height: 9.347mm; Radiation Hardening: No; REACH SVHC: No SVHC; Lead Free: Lead Free; Halogen Free: Halogen Free; RoHS Compliant: Yes; ComponentLink1URL: https://datasheet.ciiva.com/15113/getdatasheetpartid-224280-15113862.pdf?src-supplier=Verical; ComponentLink1Description: https://datasheet.ciiva.com/15113/getdatasheetpartid-224280-15113862.pdf?src-supplier=Verical; ComponentLink2URL: https://datasheet.ciiva.com/6603/lm2596-d-6603896.pdf?src-supplier=Digi-Key; ComponentLink2Description: https://datasheet.ciiva.com/6603/lm2596-d-6603896.pdf?src-supplier=Digi-Key; ComponentLink3URL: https://datasheet.ciiva.com/6603/lm2596-d-6603897.pdf?src-supplier=Digi-Key; ComponentLink3Description: https://datasheet.ciiva.com/6603/lm2596-d-6603897.pdf?src-supplier=Digi-Key; ComponentLink4URL: https://datasheet.ciiva.com/6603/lm2596-d-6603898.pdf?src-supplier=Digi-Key; ComponentLink4Description: https://datasheet.ciiva.com/6603/lm2596-d-6603898.pdf?src-supplier=Digi-Key; ComponentLink5URL: https://datasheet.ciiva.com/8270/lm2596-d-8270188.pdf?src-supplier=Avnet; ComponentLink5Description: https://datasheet.ciiva.com/8270/lm2596-d-8270188.pdf?src-supplier=Avnet; Supplier Part Number 1: LM2596DSADJR4GOSCT-ND
footprint D2PAK 5_LEAD
pins: 1 Vin, 2 OUT, 3 GND, 4 FEEDBACK, 5 ~{ON}/OFF

## MC74HC595ADR2
designator U?
IC SHIFT REGISTR 8BIT 3ST 16SOIC; Manufacturer: ON Semiconductor; Propagation Delay: 24ns; Max Supply Voltage: 6V; Number of Elements: 1; Number of Circuits: 2; Number of Input Lines: 3; Logic Function: Shift Register; Number of Bits per Element: 8; Output Type: 3-STATE; Manufacturer Part Number: MC74HC595ADR2; RoHS: No; Category: Shift Registers; Mount: Surface Mount; Case/Package: SOIC; Number of Pins: 16; Min Operating Temperature: -55°C; Max Operating Temperature: 125°C; Packaging: Tape and Reel; Package Quantity: 1; Number of Output Lines: 3; Number of Bits: 8; Voltage: 6V; Series: 74HC; Lead Free: Contains Lead; RoHS Compliant: No; ComponentLink1URL: https://datasheet.ciiva.com/1887/mc74hc595a-d-1887894.pdf?src-supplier=Digi-Key; ComponentLink1Description: https://datasheet.ciiva.com/1887/mc74hc595a-d-1887894.pdf?src-supplier=Digi-Key; ComponentLink2URL: https://datasheet.ciiva.com/1887/mc74hc595a-d-1887895.pdf?src-supplier=Digi-Key; ComponentLink2Description: https://datasheet.ciiva.com/1887/mc74hc595a-d-1887895.pdf?src-supplier=Digi-Key; Supplier 1: Digi-Key; Supplier Part Number 1: MC74HC595ADR2OSCT-ND
footprint SOIC-16
pins: 1 QB, 2 QC, 3 QD, 4 QE, 5 QF, 6 QG, 7 WH, 8 GND, 9 SQH', 10 ~{RS}T, 11 SCLK, 12 LCLK, 13 ~{OE}, 14 A, 15 QA, 16 VCC

## MH_7.4MMC_3.2MMD
designator MH?
Mounting Hole 7.4mm Diameter, 3.2mm Dril
footprint MH_7.4MMC_3.2MMD
pins: 1

## MH_7.4MMNC_3.2MMD
designator MH?
Mounting Hole 7.4mm Diameter (Non Copper), 3.2mm Dril NPTH
footprint MH_7.4MM_3.2MMD_NON_COPPER_NPTH
pins: 1

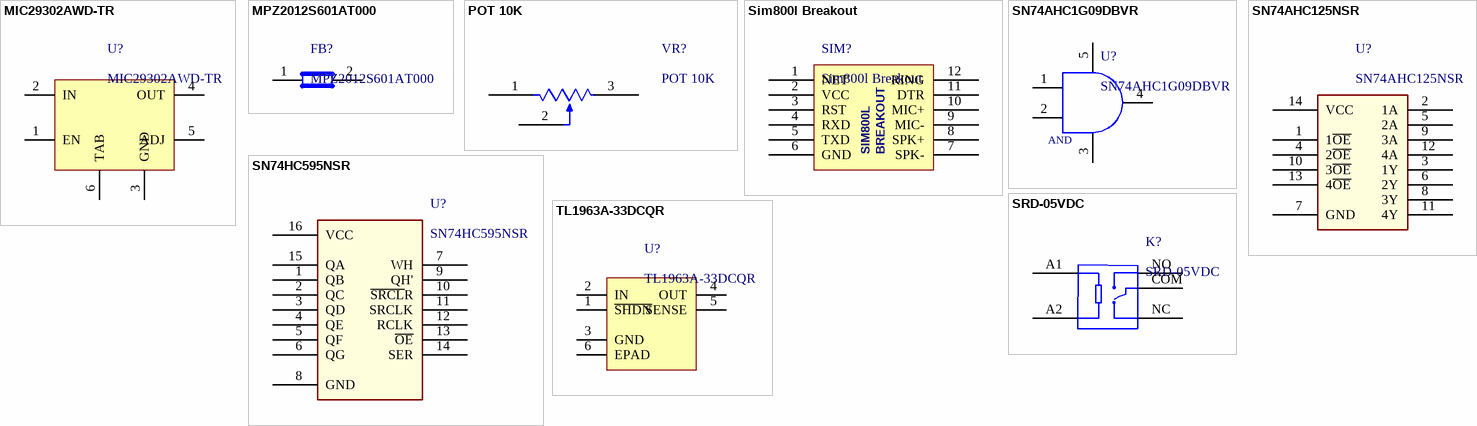
[diagram p1: symbols MIC29302AWD-TR to TL1963A-33DCQR]

## MIC29302AWD-TR
designator U?
IC REG LINEAR POS ADJ 3A TO252-5; Manufacturer: Microchip; Number of Outputs: 1; Min Input Voltage: 3V; Output Voltage: 15V; Dropout Voltage: 450mV; Polarity: Positive; Output Voltage Accuracy: 2%; Supplier 1: Digi-Key; Manufacturer Part Number: MIC29302AWD-TR; RoHS: No; Category: Voltage Regulators - Linear; Stock 1: 2431; Pricing 1: 1=1.96000, 25=1.64000, 100=1.49000 (USD); Mount: Surface Mount; Case/Package: TO-263-6; Min Operating Temperature: -40°C; Max Operating Temperature: 125°C; Packaging: Tape and Reel; Output Current: 3A; Number of Regulators: 1; Min Current Limit: 3A; Series: -; Lead Free: Lead Free; RoHS Compliant: No; ComponentLink1URL: https://datasheet.ciiva.com/6582/mic29302a-6582272.pdf?src-supplier=Digi-Key; ComponentLink1Description: https://datasheet.ciiva.com/6582/mic29302a-6582272.pdf?src-supplier=Digi-Key; ComponentLink2URL: https://datasheet.ciiva.com/6582/mic29302a-6582270.pdf?src-supplier=Digi-Key; ComponentLink2Description: https://datasheet.ciiva.com/6582/mic29302a-6582270.pdf?src-supplier=Digi-Key; Supplier Part Number 1: 576-4106-1-ND
footprint TO-252-5
pins: 1 EN, 2 IN, 3 GND, 4 OUT, 5 ADJ, 6 TAB

## MPZ2012S601AT000
designator FB?
FERRITE BEAD 600 OHM 0805 1LN; Manufacturer: TDK; Impedance: 600R; Current Rating: 2A; DC Resistance (DCR): 100mR; Supplier 1: Digi-Key; Manufacturer Part Number: MPZ2012S601AT000; RoHS: Yes; Category: Ferrite Beads and Chips; Stock 1: 209203; Pricing 1: 1=0.11000, 10=0.09200, 25=0.08240, 50=0.06040, 100=0.05220, 250=0.04116, 500=0.03476, 1000=0.02928 (USD); Mount: Surface Mount; Case/Package: 0805; Case Code (Metric): 2012; Case Code (Imperial): 0805; Packaging: Tape and Reel; Package Quantity: 1; Max DC Current: 2A; Series: MPZ; Length: 0.079inch; Width: 0.049inch; Height: 0.041inch; REACH SVHC: No SVHC; Lead Free: Lead Free; RoHS Compliant: Yes; ComponentLink1URL: https://datasheet.ciiva.com/46634/beads-commercial-power-mpz-en-46634377.pdf?src-supplier=Digi-Key; ComponentLink1Description: https://datasheet.ciiva.com/46634/beads-commercial-power-mpz-en-46634377.pdf?src-supplier=Digi-Key; ComponentLink2URL: https://datasheet.ciiva.com/46634/beads-commercial-power-mpz-en-46634606.pdf?src-supplier=Digi-Key; ComponentLink2Description: https://datasheet.ciiva.com/46634/beads-commercial-power-mpz-en-46634606.pdf?src-supplier=Digi-Key; ComponentLink3URL: https://datasheet.ciiva.com/46634/beads-commercial-power-mpz-en-46634335.pdf?src-supplier=Digi-Key; ComponentLink3Description: https://datasheet.ciiva.com/46634/beads-commercial-power-mpz-en-46634335.pdf?src-supplier=Digi-Key; Supplier Part Number 1: 445-2206-1-ND
footprint C0805
pins: 1, 2

## POT 10K
designator VR?
Res Conductive Plastic POT 10K Ohm 20% 1/5W 1(Elec)/1(Mech)Turn 6mm Pin Panel Mount/Through Hole; Manufacturer: TT BI; Manufacturer Part Number: P160KN2-0QA25B10K; Number of Gangs: 1; Resistance: 10kR; Power Rating: 200mW; Actuator Length: 0.984inch; Actuator Diameter: 0.236inch; Supplier 1: Digi-Key; RoHS: Yes; Category: Variable Resistors and Potentiometers; Stock 1: 2543; Pricing 1: 1=0.79000, 10=0.71300, 25=0.64400, 50=0.62100, 100=0.58650, 250=0.56352, 880=0.50600, 1760=0.43700, 5280=0.35650 (USD); Mount: Panel; Min Operating Temperature: -20°C; Max Operating Temperature: 70°C; Taper: Linear; Number of Turns: 1; Termination: Pin; Tolerance: 20%; Packaging: Tray; Package Quantity: 100; Max Power Dissipation: 200mW; Type: Potentiometer; Resistor Type: Conductive Plastic; Length: 34.5mm; Depth: 17mm; Military Standard: Not; ComponentLink1URL: https://datasheet.ciiva.com/48425/p160-eng-tds-48425253.pdf?src-supplier=Distrelec; ComponentLink1Description: https://datasheet.ciiva.com/48425/p160-eng-tds-48425253.pdf?src-supplier=Distrelec; Supplier Part Number 1: 987-1715-ND
footprint 5MM_POT
pins: 1, 2, 3

## Sim800l Breakout
designator SIM?
Supplier1: Nerokas; ComponentLink1Description: Shop; ComponentLink1URL: https://store.nerokas.co.ke/index.php?route=product/product&product_id=1266
footprint SIM800L_BO
pins: 1 NET, 2 VCC, 3 RST, 4 RXD, 5 TXD, 6 GND, 7 SPK-, 8 SPK+, 9 MIC-, 10 MIC+, 11 DTR, 12 RING
text: SIM800L; BREAKOUT

## SN74AHC1G09DBVR
designator U?
TEXAS INSTRUMENTS - SN74AHC1G09DBVR - AND Gate, 74AHC1G09, 2 Input, 2 V to 5.5 V, SOT-23-5; Min Supply Voltage: 2V; Max Supply Voltage: 5.5V; Quiescent Current: 1uA; Number of Inputs: 2; Propagation Delay: 7.5ns; Output Current: 25mA; Number of Circuits: 1; Low Level Output Current: 8mA; Supplier 1: Digi-Key; Manufacturer: Texas Instruments; Manufacturer Part Number: SN74AHC1G09DBVR; RoHS: Yes; Category: Logic Gates; Stock 1: 8299; Pricing 1: 1=0.36000, 10=0.27100, 25=0.23760, 100=0.15370, 250=0.12720, 500=0.10176, 1000=0.07802 (USD); Mount: Surface Mount; Case/Package: SOT-23; Number of Pins: 5; Contact Plating: Tin,Matte; Min Operating Temperature: -55°C; Max Operating Temperature: 125°C; Logic Function: AND GATE; Package Quantity: 3000; Packaging: Tape and Reel; Number of Gates: 1; Number of Elements: 1; Number of Bits: 1; Series: 74AHC; Technology: CMOS; Output Voltage: 5.5V; Number of Outputs: 1; Radiation Hardening: No; REACH SVHC: No SVHC; Lead Free: Lead Free; RoHS Compliant: Yes; ComponentLink1URL: https://datasheet.ciiva.com/1864/sn74ahc1g09-1864410.pdf?src-supplier=Digi-Key; ComponentLink1Description: https://datasheet.ciiva.com/1864/sn74ahc1g09-1864410.pdf?src-supplier=Digi-Key; ComponentLink2URL: https://datasheet.ciiva.com/1864/sn74ahc1g09-1864411.pdf?src-supplier=Digi-Key; ComponentLink2Description: https://datasheet.ciiva.com/1864/sn74ahc1g09-1864411.pdf?src-supplier=Digi-Key; ComponentLink3URL: https://datasheet.ciiva.com/1864/sn74ahc1g09-1864412.pdf?src-supplier=Digi-Key; ComponentLink3Description: https://datasheet.ciiva.com/1864/sn74ahc1g09-1864412.pdf?src-supplier=Digi-Key; Supplier Part Number 1: 296-29202-1-ND
footprint DBV_SOP_23_5
pins: 1, 2, 3, 4, 5
text: AND

## SN74AHC125NSR
designator U?
Buffer/Line Driver 4-CH Non-Inverting 3-ST CMOS 14-Pin SOP T/R; Manufacturer: Texas Instruments; Number of Elements: 4; Max Supply Voltage: 5.5V; Min Supply Voltage: 2V; Propagation Delay: 7.5ns; Logic Function: Buffer,Inverting; Number of Bits per Element: 1; High Level Output Current: -8mA; Low Level Output Current: 8mA; Turn-On Delay Time: 15ns; Quiescent Current: 4uA; Output Type: 3-STATE; Manufacturer Part Number: SN74AHC125NSR; RoHS: Yes; Category: Buffers, Drivers and Transceivers; Stock 1: 3905; Pricing 1: 1=0.43000, 10=0.36600, 25=0.34120, 100=0.27310, 250=0.25356, 500=0.21454, 1000=0.16578 (USD); Mount: Surface Mount; Case/Package: SO; Number of Pins: 14; Min Operating Temperature: -40°C; Max Operating Temperature: 125°C; Package Quantity: 2000; Packaging: Tape and Reel; Number of Channels: 4; Number of Inputs: 4; Number of Outputs: 4; Number of Input Lines: 4; Number of Output Lines: 4; Polarity: Non-Inverting; Number of Bits: 4; Series: 74AHC; Technology: CMOS; Lead Free: Lead Free; RoHS Compliant: Yes; ComponentLink1URL: https://datasheet.ciiva.com/6623/sn74ahc125-6623637.pdf?src-supplier=Digi-Key; ComponentLink1Description: https://datasheet.ciiva.com/6623/sn74ahc125-6623637.pdf?src-supplier=Digi-Key; Supplier 1: Digi-Key; Supplier Part Number 1: 296-31733-1-ND
footprint 14-SOIC_5.3MM
pins: 1 1~{OE}, 2 1A, 3 1Y, 4 2~{OE}, 5 2A, 6 2Y, 7 GND, 8 3Y, 9 3A, 10 3~{OE}, 11 4Y, 12 4A, 13 4~{OE}, 14 VCC

## SN74HC595NSR
designator U?
Shift Register Single 8-Bit Serial to Serial/Parallel 16-Pin SOP T/R; Manufacturer: Texas Instruments; Number of Elements: 1; Min Supply Voltage: 2V; Max Supply Voltage: 6V; Operating Supply Voltage: 5V; Propagation Delay: 34ns; Direction: Unidirectional; Number of Output Lines: 9; Number of Bits per Element: 8; Turn-On Delay Time: 250ns; Quiescent Current: 8uA; Output Type: 3-STATE; Manufacturer Part Number: SN74HC595NSR; RoHS: Yes; Category: Shift Registers; Stock 1: 3063; Pricing 1: 1=0.60000, 10=0.51700, 25=0.48240, 100=0.38580, 250=0.35828, 500=0.30316, 1000=0.23426 (USD); Mount: Surface Mount; Case/Package: SOP; Number of Pins: 16; Weight: 0.007079oz; Contact Plating: Gold; Min Operating Temperature: -40°C; Max Operating Temperature: 85°C; Packaging: Tape and Reel; Package Quantity: 2000; Logic Function: Shift Register; Number of Circuits: 1; Number of Input Lines: 1; Number of Bits: 8; Series: 74HC; Technology: CMOS; Radiation Hardening: No; REACH SVHC: No SVHC; Lead Free: Lead Free; RoHS Compliant: Yes; ComponentLink1URL: https://datasheet.ciiva.com/26807/getdatasheetpartid-39956-26807430.pdf?src-supplier=Verical; ComponentLink1Description: https://datasheet.ciiva.com/26807/getdatasheetpartid-39956-26807430.pdf?src-supplier=Verical; ComponentLink2URL: https://datasheet.ciiva.com/14296/sn74hc595-14296695.pdf?src-supplier=Avnet; ComponentLink2Description: https://datasheet.ciiva.com/14296/sn74hc595-14296695.pdf?src-supplier=Avnet; ComponentLink3URL: https://datasheet.ciiva.com/1886/sn74hc595-1886315.pdf?src-supplier=Digi-Key; ComponentLink3Description: https://datasheet.ciiva.com/1886/sn74hc595-1886315.pdf?src-supplier=Digi-Key; ComponentLink4URL: https://datasheet.ciiva.com/1886/sn74hc595-1886316.pdf?src-supplier=Digi-Key; ComponentLink4Description: https://datasheet.ciiva.com/1886/sn74hc595-1886316.pdf?src-supplier=Digi-Key; ComponentLink5URL: https://datasheet.ciiva.com/1886/sn74hc595-1886317.pdf?src-supplier=Digi-Key; ComponentLink5Description: https://datasheet.ciiva.com/1886/sn74hc595-1886317.pdf?src-supplier=Digi-Key; ComponentLink6URL: https://datasheet.ciiva.com/48704/001074736-da-01-en-ic-shift-regist-sn74hc595nsr-soic-16-tid-48704219.pdf?src-supplier=Conrad; ComponentLink6Description: https://datasheet.ciiva.com/48704/001074736-da-01-en-ic-shift-regist-sn74hc595nsr-soic-16-tid-48704219.pdf?src-supplier=Conrad; Supplier 1: Digi-Key; Supplier Part Number 1: 296-26485-1-ND
footprint SOIC16
pins: 1 QB, 2 QC, 3 QD, 4 QE, 5 QF, 6 QG, 7 WH, 8 GND, 9 QH', 10 ~{SRCL}R, 11 SRCLK, 12 RCLK, 13 ~{OE}, 14 SER, 15 QA, 16 VCC